# Altium footprint library PCB - CONNECTOR - TE - TE NC6-P108-02.PCBLIB: 1 footprints
Each footprint in its own frame and in the unit in brackets; x right, y up, seen from the top. Pads: shape width x height; smd on the part's side, far side on the other; paste and mask are expansions set on the pad; w line width, h text height; cw(c..) or ccw(c..) is an arc to the next point about the centre after c.
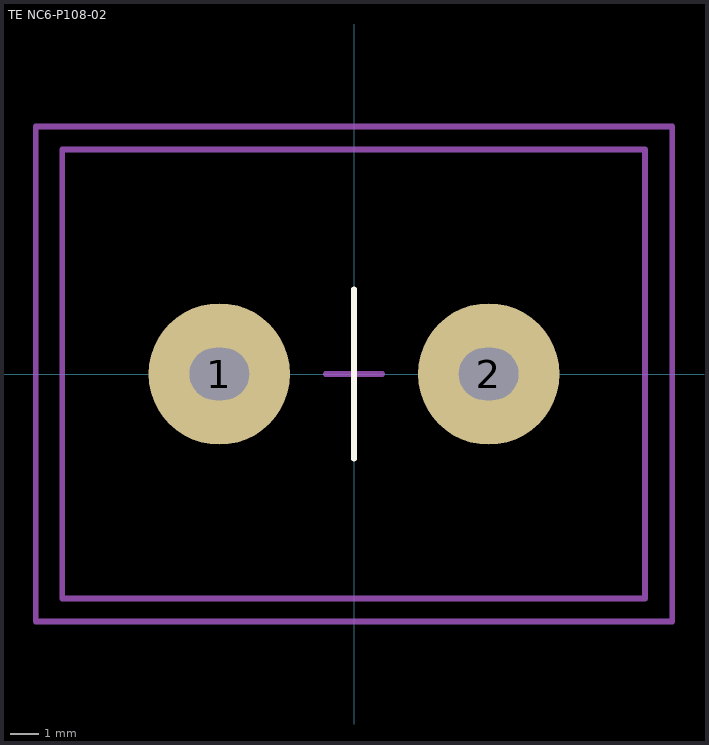
[diagram p0: the footprint, top view; thin cyan lines are the x and y axes]

## TE NC6-P108-02 [mm]
height 16.51
pads (2):
  round 5 hole 1.854 slot 2.1 at 0 deg: 1(-4.763,0) 2(4.763,0)
Top Overlay:
  lines w0.2: 0,-3 0,3
Top Assembly:
  lines w0.2: -10.312,-7.937 10.287,-7.937 10.287,7.938 -10.312,7.938 -10.312,-7.937
  text ".Designator" at -4.5,-0.452 h2
Top Component Center:
  lines w0.2: -1,0 1,0 ; 0,-1 0,1
Top Courtyard:
  lines w0.2: -11.25,-8.75 11.25,-8.75 11.25,8.75 -11.25,8.75 -11.25,-8.75
3D body "TE NC6-P108-02.STEP": height 16.38, standoff -4.57, extent -10.312,-7.937 10.287,7.938